# EAGLE library part LCD_OPTREX_16X2 (library harrison)
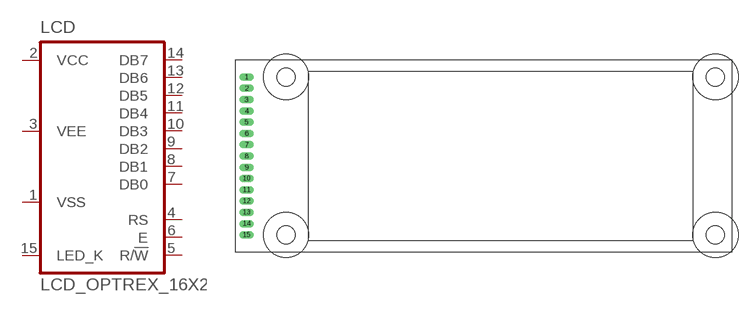
[diagram p29: symbol with the pads of LCD_OPTREX_16X2; footprint LCD_OPTREX_16X2]

Designator prefix LCD

## LCD_OPTREX_16X2  [LCD_OPTREX_16X2]
1  VSS  pwr
2  VCC  pwr
3  VEE  pwr
4  RS  in
5  R/!W!  in
6  E  in
7  DB0  in
8  DB1  in
9  DB2  in
10  DB3  in
11  DB4  in
12  DB5  in
13  DB6  in
14  DB7  in
15  LED_K  pas

## Footprint LCD_OPTREX_16X2 (pad centres in mm)
drill 0.8 long: 1 2,31; 2 2,29; 3 2,27; 4 2,25; 5 2,23; 6 2,21; 7 2,19; 8 2,17; 9 2,15; 10 2,13; 11 2,11; 12 2,9; 13 2,7; 14 2,5; 15 2,3
hole 3.2 at 9,3
hole 3.2 at 9,31
hole 3.2 at 85,31
hole 3.2 at 85,3